# Altium schematic symbol library UM982.SchLib: 1 symbol
Pins are listed as number, name and electrical type; pins without a type are passive.

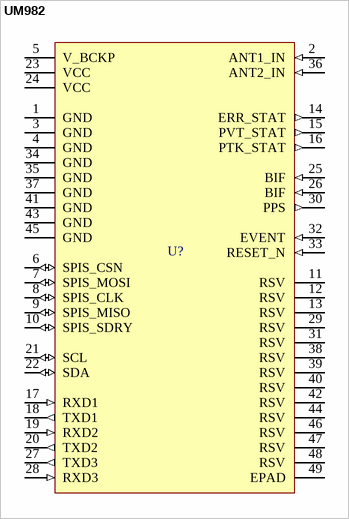
[diagram p0: symbol UM982]

## UM982
designator U?
Unicore GPS / Glonass / Galileo / Beidou / QZSS_High Precision RTK and Heading Module
pins: 1 GND (power), 2 ANT1_IN (in), 3 GND (power), 4 GND (power), 5 V_BCKP (power), 6 SPIS_CSN (io), 7 SPIS_MOSI (io), 8 SPIS_CLK (io), 9 SPIS_MISO (io), 10 SPIS_SDRY (io), 11 RSV (power), 12 RSV (power), 13 RSV (power), 14 ERR_STAT (out), 15 PVT_STAT (out), 16 PTK_STAT (out), 17 RXD1 (in), 18 TXD1 (out), 19 RXD2 (in), 20 TXD2 (out), 21 SCL (io), 22 SDA (io), 23 VCC (power), 24 VCC (power), 25 BIF (in), 26 BIF (in), 27 TXD3 (out), 28 RXD3 (in), 29 RSV (power), 30 PPS (out), 31 RSV (power), 32 EVENT (in), 33 RESET_N (in), 34 GND (power), 35 GND (power), 36 ANT2_IN (in), 37 GND (power), 38 RSV (power), 39 RSV (power), 40 RSV (power), 41 GND (power), 42 RSV (power), 43 GND (power), 44 RSV (power), 45 GND (power), 46 RSV (power), 47 RSV (power), 48 RSV, 49 EPAD